# Altium footprint library ESDM3051MXT5G.PcbLib: 1 footprints
Each footprint in its own frame and in the unit in brackets; x right, y up, seen from the top. Pads: shape width x height; smd on the part's side, far side on the other; paste and mask are expansions set on the pad; w line width, h text height; cw(c..) or ccw(c..) is an arc to the next point about the centre after c.
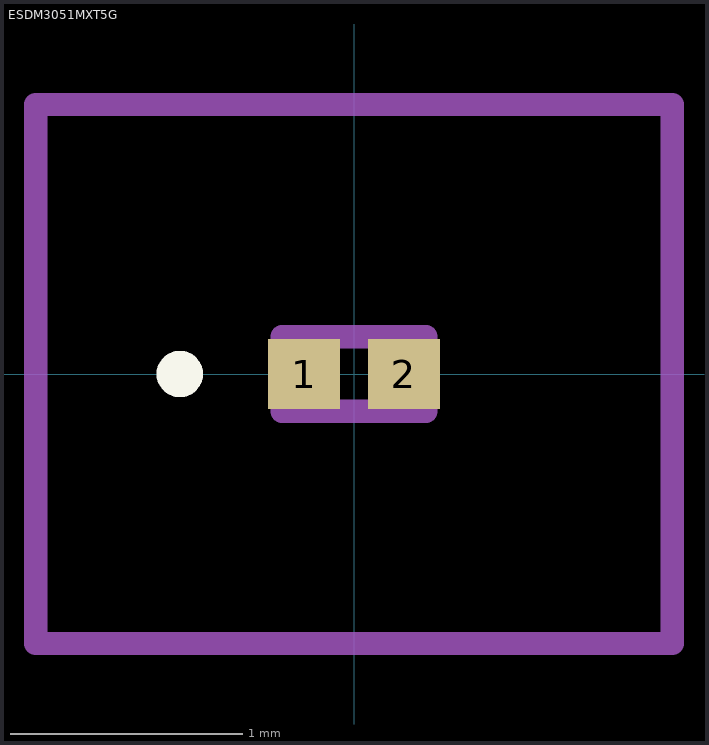
[diagram p0: the footprint, top view; thin cyan lines are the x and y axes]

## ESDM3051MXT5G [mm]
pads (2):
  rect 0.31x0.3 smd: 1(-0.215,0) 2(0.215,0)
Top Overlay:
  lines w0.1: -0.8,0 -0.8,0 ; -0.8,0 ccw(c-0.75,0) -0.7,0 ; -0.8,0 cw(c-0.75,0) -0.7,0 ; -0.7,0 -0.7,0
Mechanical 15:
  lines w0.1: -0.31,-0.16 0.31,-0.16 0.31,0.16 -0.31,0.16 -0.31,-0.16
Mechanical 20:
  lines w0.1: -1.37,-1.16 1.37,-1.16 1.37,1.16 -1.37,1.16 -1.37,-1.16
3D body "ESDM3051MXT5G.stp": height 5.8, standoff -4.65, extent -10,-3.376 10,3.376